# Altium footprint library 0805.PcbLib: 3 footprints
Each footprint in its own frame and in the unit in brackets; x right, y up, seen from the top. Pads: shape width x height; smd on the part's side, far side on the other; paste and mask are expansions set on the pad; w line width, h text height; cw(c..) or ccw(c..) is an arc to the next point about the centre after c.
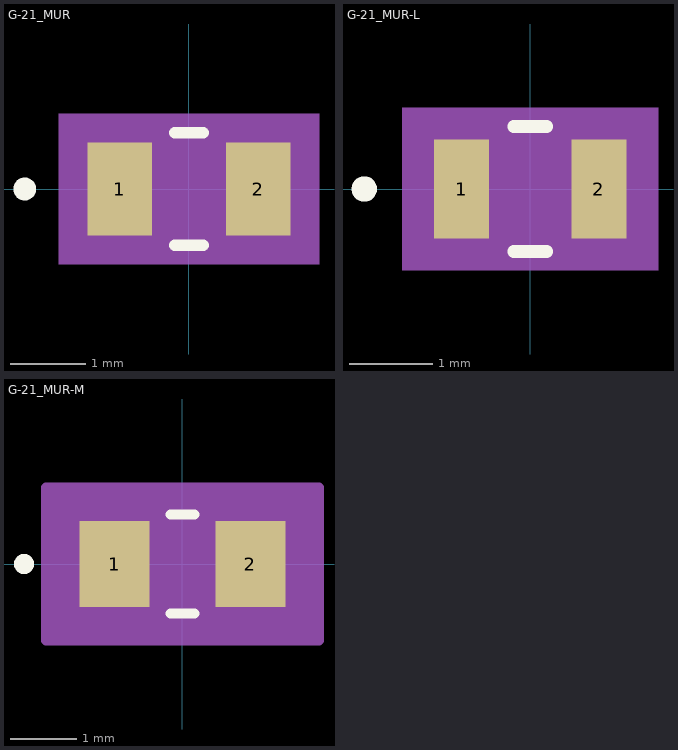
[diagram p0: the footprints below, top view; thin cyan lines are the x and y axes]

## G-21_MUR [mil]
pads (2):
  rect 33.78x49 smd paste+0 mask+0: 1(-36.39,0) 2(36.39,0)
Top Overlay:
  circle w6: c-86.28,0 r3
  lines w6: -7.39,-29.5 7.39,-29.5 ; -7.39,29.5 7.39,29.5
Mechanical 5:
  region: 68.28,-39.5 -68.28,-39.5 -68.28,39.5 68.28,39.5
Mechanical 13:
  circle w0: c-31.39,0 r3
  lines w1: -39.5,-24.5 -39.5,24.5 ; -39.5,-24.5 -19.5,-24.5 -19.5,24.5 -39.5,24.5 ; -39.5,-24.5 39.5,-24.5 ; -39.5,-24.5 -39.5,24.5 ; -39.5,24.5 39.5,24.5 ; 39.5,-24.5 19.5,-24.5 19.5,24.5 39.5,24.5 ; 39.5,-24.5 39.5,24.5 ; 39.5,-24.5 39.5,24.5
Mechanical 15:
  region: 63.28,-34.5 -63.28,-34.5 -63.28,34.5 63.28,34.5
  lines w6: -63.28,-34.5 -63.28,34.5 63.28,34.5 63.28,-34.5 -63.28,-34.5
3D body: height 10, standoff 0, extent 0,0 10,10
3D body "G-21_MUR.step": height 57.01, standoff 0, extent -39.49,-24.49 39.49,24.49

## G-21_MUR-L [mil]
pads (2):
  rect 25.91x47.03 smd paste+0 mask+0: 1(-32.45,0) 2(32.45,0)
Top Overlay:
  circle w6: c-78.41,0 r3
  lines w6: -7.85,-29.5 7.85,-29.5 ; -7.85,29.5 7.85,29.5
Mechanical 5:
  region: 60.41,-38.52 -60.41,-38.52 -60.41,38.52 60.41,38.52
Mechanical 13:
  circle w0: c-27.45,0 r3
  lines w1: -39.5,-24.5 -39.5,24.5 ; -39.5,-24.5 39.5,-24.5 ; -39.5,-24.5 -19.5,-24.5 -19.5,24.5 -39.5,24.5 ; -39.5,-24.5 -39.5,24.5 ; -39.5,24.5 39.5,24.5 ; 39.5,-24.5 39.5,24.5 ; 39.5,-24.5 39.5,24.5 ; 39.5,-24.5 19.5,-24.5 19.5,24.5 39.5,24.5
Mechanical 15:
  region: 49.41,-27.52 -49.41,-27.52 -49.41,27.52 49.41,27.52
  lines w6: -49.41,-27.52 49.41,-27.52 49.41,27.52 -49.41,27.52 -49.41,-27.52
3D body "G-21_MUR-L.step": height 57.01, standoff 0, extent -39.48,-24.49 39.49,24.49
3D body: height 10, standoff 0, extent 0,0 10,10

## G-21_MUR-M [mil]
pads (2):
  rect 41.65x50.97 smd paste+0 mask+0: 1(-40.33,0) 2(40.33,0)
Top Overlay:
  circle w6: c-94.15,0 r3
  lines w6: -7.03,-29.5 7.03,-29.5 ; -7.03,29.5 7.03,29.5
Mechanical 5:
  region: 76.15,-40.48 -76.15,-40.48 -76.15,40.48 76.15,40.48
Mechanical 13:
  circle w0: c-35.33,0 r3
  lines w1: -39.5,-24.5 -39.5,24.5 ; -39.5,-24.5 39.5,-24.5 ; -39.5,-24.5 -19.5,-24.5 -19.5,24.5 -39.5,24.5 ; -39.5,-24.5 -39.5,24.5 ; -39.5,24.5 39.5,24.5 ; 39.5,-24.5 39.5,24.5 ; 39.5,-24.5 39.5,24.5 ; 39.5,-24.5 19.5,-24.5 19.5,24.5 39.5,24.5
Mechanical 15:
  region: 81.15,-45.48 -81.15,-45.48 -81.15,45.48 81.15,45.48
  lines w6: -81.15,-45.48 81.15,-45.48 81.15,45.48 -81.15,45.48 -81.15,-45.48
3D body "G-21_MUR-M.step": height 57.01, standoff 0, extent -39.48,-24.49 39.49,24.49
3D body: height 10, standoff 0, extent 0,0 10,10